# EAGLE library part XKT-335 (library my_ic)
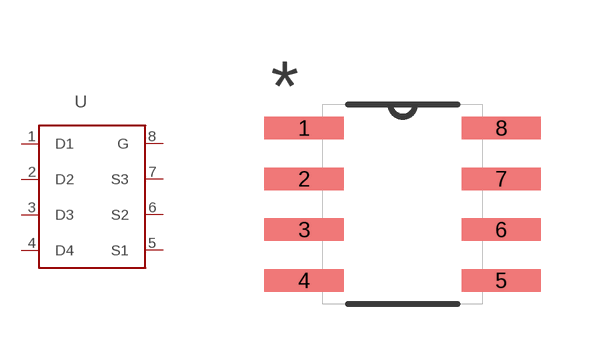
[diagram p29: symbol with the pads of SOIC-8; footprint SOIC-8]

Designator prefix -

## XKT-335  [SOIC-8]
1  D1
2  D2
3  D3
4  D4
5  S1
6  S2
7  S3
8  G

## Footprint SOIC-8 (pad centres in mm)
smd 1.981 x 0.559: 1 -2.464,1.905; 2 -2.464,0.635; 3 -2.464,-0.635; 4 -2.464,-1.905; 5 2.464,-1.905; 6 2.464,-0.635; 7 2.464,0.635; 8 2.464,1.905